# EAGLE library part EP4CE22E144 (library cvogel)
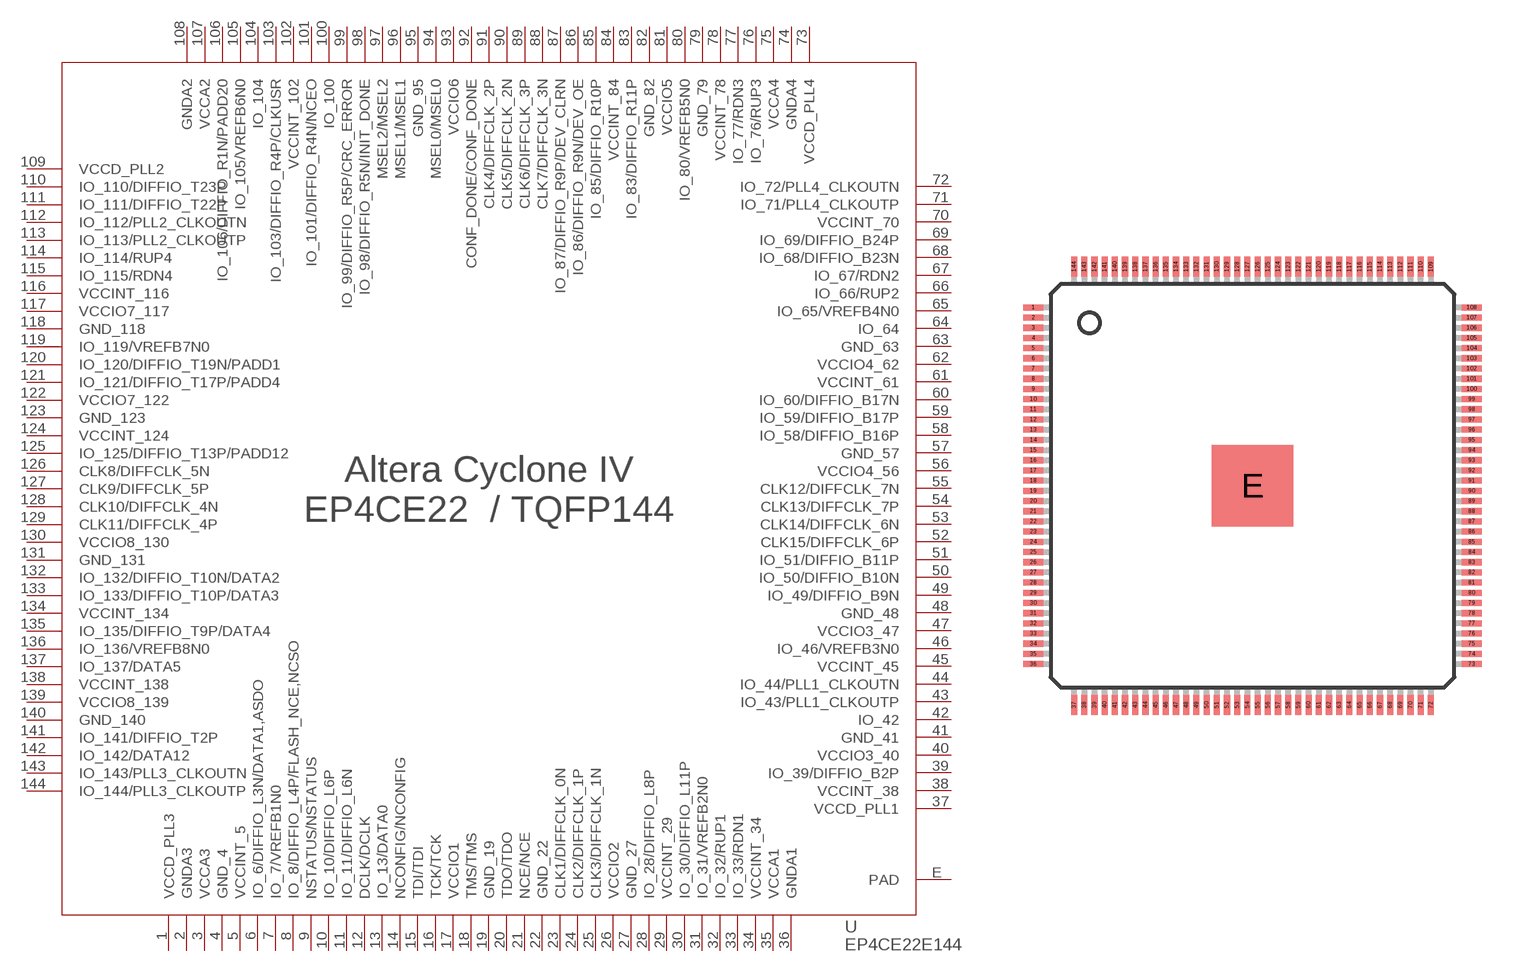
[diagram p0: symbol with the pads of EQFP144; footprint EQFP144]

Designator prefix U

## EP4CE22E144  [EQFP144]
1  VCCD_PLL3  pas
2  GNDA3  pas
3  VCCA3  pas
4  GND_4  pas
5  VCCINT_5  pas
6  IO_6/DIFFIO_L3N/DATA1,ASDO
7  IO_7/VREFB1N0
8  IO_8/DIFFIO_L4P/FLASH_NCE,NCSO
9  NSTATUS/NSTATUS
10  IO_10/DIFFIO_L6P
11  IO_11/DIFFIO_L6N
12  DCLK/DCLK
13  IO_13/DATA0
14  NCONFIG/NCONFIG
15  TDI/TDI
16  TCK/TCK
17  VCCIO1  pas
18  TMS/TMS
19  GND_19  pas
20  TDO/TDO
21  NCE/NCE
22  GND_22  pas
23  CLK1/DIFFCLK_0N
24  CLK2/DIFFCLK_1P
25  CLK3/DIFFCLK_1N
26  VCCIO2  pas
27  GND_27  pas
28  IO_28/DIFFIO_L8P
29  VCCINT_29  pas
30  IO_30/DIFFIO_L11P
31  IO_31/VREFB2N0
32  IO_32/RUP1
33  IO_33/RDN1
34  VCCINT_34  pas
35  VCCA1  pas
36  GNDA1  pas
37  VCCD_PLL1  pas
38  VCCINT_38  pas
39  IO_39/DIFFIO_B2P
40  VCCIO3_40  pas
41  GND_41  pas
42  IO_42
43  IO_43/PLL1_CLKOUTP
44  IO_44/PLL1_CLKOUTN
45  VCCINT_45  pas
46  IO_46/VREFB3N0
47  VCCIO3_47  pas
48  GND_48  pas
49  IO_49/DIFFIO_B9N
50  IO_50/DIFFIO_B10N
51  IO_51/DIFFIO_B11P
52  CLK15/DIFFCLK_6P
53  CLK14/DIFFCLK_6N
54  CLK13/DIFFCLK_7P
55  CLK12/DIFFCLK_7N
56  VCCIO4_56  pas
57  GND_57  pas
58  IO_58/DIFFIO_B16P
59  IO_59/DIFFIO_B17P
60  IO_60/DIFFIO_B17N
61  VCCINT_61  pas
62  VCCIO4_62  pas
63  GND_63  pas
64  IO_64
65  IO_65/VREFB4N0
66  IO_66/RUP2
67  IO_67/RDN2
68  IO_68/DIFFIO_B23N
69  IO_69/DIFFIO_B24P
70  VCCINT_70  pas
71  IO_71/PLL4_CLKOUTP
72  IO_72/PLL4_CLKOUTN
73  VCCD_PLL4  pas
74  GNDA4  pas
75  VCCA4  pas
76  IO_76/RUP3
77  IO_77/RDN3
78  VCCINT_78  pas
79  GND_79  pas
80  IO_80/VREFB5N0
81  VCCIO5  pas
82  GND_82  pas
83  IO_83/DIFFIO_R11P
84  VCCINT_84  pas
85  IO_85/DIFFIO_R10P
86  IO_86/DIFFIO_R9N/DEV_OE
87  IO_87/DIFFIO_R9P/DEV_CLRN
88  CLK7/DIFFCLK_3N
89  CLK6/DIFFCLK_3P
90  CLK5/DIFFCLK_2N
91  CLK4/DIFFCLK_2P
92  CONF_DONE/CONF_DONE
93  VCCIO6  pas
94  MSEL0/MSEL0
95  GND_95  pas
96  MSEL1/MSEL1
97  MSEL2/MSEL2
98  IO_98/DIFFIO_R5N/INIT_DONE
99  IO_99/DIFFIO_R5P/CRC_ERROR
100  IO_100
101  IO_101/DIFFIO_R4N/NCEO
102  VCCINT_102  pas
103  IO_103/DIFFIO_R4P/CLKUSR
104  IO_104
105  IO_105/VREFB6N0
106  IO_106/DIFFIO_R1N/PADD20
107  VCCA2  pas
108  GNDA2  pas
109  VCCD_PLL2  pas
110  IO_110/DIFFIO_T23P
111  IO_111/DIFFIO_T22P
112  IO_112/PLL2_CLKOUTN
113  IO_113/PLL2_CLKOUTP
114  IO_114/RUP4
115  IO_115/RDN4
116  VCCINT_116  pas
117  VCCIO7_117  pas
118  GND_118  pas
119  IO_119/VREFB7N0
120  IO_120/DIFFIO_T19N/PADD1
121  IO_121/DIFFIO_T17P/PADD4
122  VCCIO7_122  pas
123  GND_123  pas
124  VCCINT_124  pas
125  IO_125/DIFFIO_T13P/PADD12
126  CLK8/DIFFCLK_5N
127  CLK9/DIFFCLK_5P
128  CLK10/DIFFCLK_4N
129  CLK11/DIFFCLK_4P
130  VCCIO8_130  pas
131  GND_131  pas
132  IO_132/DIFFIO_T10N/DATA2
133  IO_133/DIFFIO_T10P/DATA3
134  VCCINT_134  pas
135  IO_135/DIFFIO_T9P/DATA4
136  IO_136/VREFB8N0
137  IO_137/DATA5
138  VCCINT_138  pas
139  VCCIO8_139  pas
140  GND_140  pas
141  IO_141/DIFFIO_T2P
142  IO_142/DATA12
143  IO_143/PLL3_CLKOUTN
144  IO_144/PLL3_CLKOUTP
E  PAD  pas

## Footprint EQFP144 (pad centres in mm)
EQFP144 Source: http://www.altera.com/literature/ds/144-EQFP.pdf
smd 1 x 0.3: 1 -10.75,8.75; 2 -10.75,8.25; 3 -10.75,7.75; 4 -10.75,7.25; 5 -10.75,6.75; 6 -10.75,6.25; 7 -10.75,5.75; 8 -10.75,5.25; 9 -10.75,4.75; 10 -10.75,4.25; 11 -10.75,3.75; 12 -10.75,3.25; 13 -10.75,2.75; 14 -10.75,2.25; 15 -10.75,1.75; 16 -10.75,1.25; 17 -10.75,0.75; 18 -10.75,0.25; 19 -10.75,-0.25; 20 -10.75,-0.75; 21 -10.75,-1.25; 22 -10.75,-1.75; 23 -10.75,-2.25; 24 -10.75,-2.75; 25 -10.75,-3.25; 26 -10.75,-3.75; 27 -10.75,-4.25; 28 -10.75,-4.75; 29 -10.75,-5.25; 30 -10.75,-5.75; 31 -10.75,-6.25; 32 -10.75,-6.75; 33 -10.75,-7.25; 34 -10.75,-7.75; 35 -10.75,-8.25; 36 -10.75,-8.75; 73 10.75,-8.75; 74 10.75,-8.25; 75 10.75,-7.75; 76 10.75,-7.25; 77 10.75,-6.75; 78 10.75,-6.25; 79 10.75,-5.75; 80 10.75,-5.25; 81 10.75,-4.75; 82 10.75,-4.25; 83 10.75,-3.75; 84 10.75,-3.25; 85 10.75,-2.75; 86 10.75,-2.25; 87 10.75,-1.75; 88 10.75,-1.25; 89 10.75,-0.75; 90 10.75,-0.25; 91 10.75,0.25; 92 10.75,0.75; 93 10.75,1.25; 94 10.75,1.75; 95 10.75,2.25; 96 10.75,2.75; 97 10.75,3.25; 98 10.75,3.75; 99 10.75,4.25; 100 10.75,4.75; 101 10.75,5.25; 102 10.75,5.75; 103 10.75,6.25; 104 10.75,6.75; 105 10.75,7.25; 106 10.75,7.75; 107 10.75,8.25; 108 10.75,8.75
smd 0.3 x 1: 37 -8.75,-10.75; 38 -8.25,-10.75; 39 -7.75,-10.75; 40 -7.25,-10.75; 41 -6.75,-10.75; 42 -6.25,-10.75; 43 -5.75,-10.75; 44 -5.25,-10.75; 45 -4.75,-10.75; 46 -4.25,-10.75; 47 -3.75,-10.75; 48 -3.25,-10.75; 49 -2.75,-10.75; 50 -2.25,-10.75; 51 -1.75,-10.75; 52 -1.25,-10.75; 53 -0.75,-10.75; 54 -0.25,-10.75; 55 0.25,-10.75; 56 0.75,-10.75; 57 1.25,-10.75; 58 1.75,-10.75; 59 2.25,-10.75; 60 2.75,-10.75; 61 3.25,-10.75; 62 3.75,-10.75; 63 4.25,-10.75; 64 4.75,-10.75; 65 5.25,-10.75; 66 5.75,-10.75; 67 6.25,-10.75; 68 6.75,-10.75; 69 7.25,-10.75; 70 7.75,-10.75; 71 8.25,-10.75; 72 8.75,-10.75; 109 8.75,10.75; 110 8.25,10.75; 111 7.75,10.75; 112 7.25,10.75; 113 6.75,10.75; 114 6.25,10.75; 115 5.75,10.75; 116 5.25,10.75; 117 4.75,10.75; 118 4.25,10.75; 119 3.75,10.75; 120 3.25,10.75; 121 2.75,10.75; 122 2.25,10.75; 123 1.75,10.75; 124 1.25,10.75; 125 0.75,10.75; 126 0.25,10.75; 127 -0.25,10.75; 128 -0.75,10.75; 129 -1.25,10.75; 130 -1.75,10.75; 131 -2.25,10.75; 132 -2.75,10.75; 133 -3.25,10.75; 134 -3.75,10.75; 135 -4.25,10.75; 136 -4.75,10.75; 137 -5.25,10.75; 138 -5.75,10.75; 139 -6.25,10.75; 140 -6.75,10.75; 141 -7.25,10.75; 142 -7.75,10.75; 143 -8.25,10.75; 144 -8.75,10.75
smd 4 x 4: E 0,0